# Altium footprint library SOP65P222X120-6N ARRAy.PcbLib: 1 footprints
Each footprint in its own frame and in the unit in brackets; x right, y up, seen from the top. Pads: shape width x height; smd on the part's side, far side on the other; paste and mask are expansions set on the pad; w line width, h text height; cw(c..) or ccw(c..) is an arc to the next point about the centre after c.
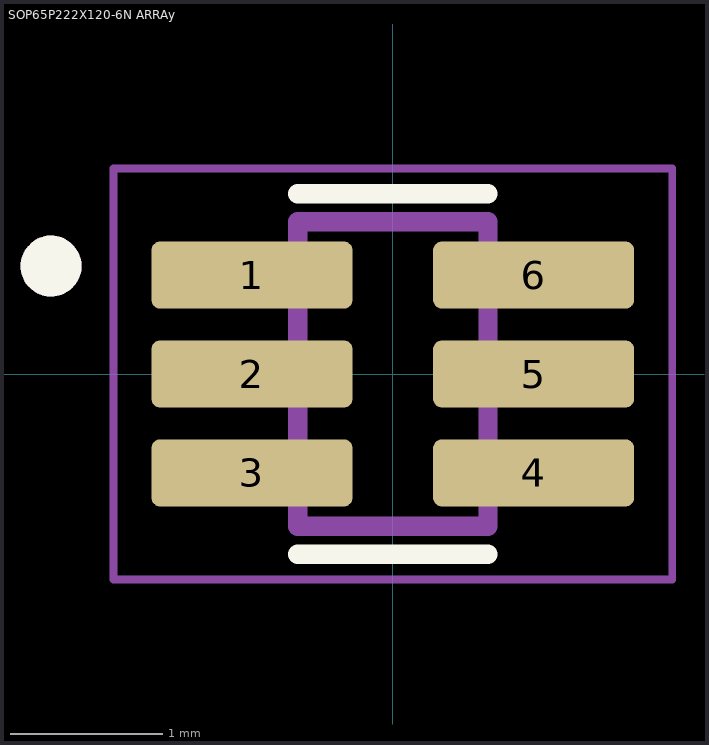
[diagram p0: the footprint, top view; thin cyan lines are the x and y axes]

## SOP65P222X120-6N ARRAy [mm]
pads (6):
  rrect25% 1.32x0.44 smd: 1(-0.925,0.65) 2(-0.925,0) 3(-0.925,-0.65) 4(0.925,-0.65) 5(0.925,0) 6(0.925,0.65)
Top Overlay:
  circle w0.2: c-2.245,0.709 r0.1
  lines w0.127: -0.625,-1.184 0.625,-1.184 ; -0.625,1.184 0.625,1.184
Assembly Top:
  circle w0.2: c-2.245,0.709 r0.1
  lines w0.127: -0.625,-1 -0.625,1 0.625,1 0.625,-1 -0.625,-1
Top Courtyard:
  lines w0.05: -1.835,-1.35 -1.835,1.35 1.835,1.35 1.835,-1.35 -1.835,-1.35
3D body "step_temp.STEP": height 1.2, standoff 0, extent -1.15,-1 1.15,1